# Altium footprint library WR-FPC_1.00mm.PcbLib: 115 footprints (part 5 of 8)
Each footprint in its own frame and in the unit in brackets; x right, y up, seen from the top. Pads: shape width x height; smd on the part's side, far side on the other; paste and mask are expansions set on the pad; w line width, h text height; cw(c..) or ccw(c..) is an arc to the next point about the centre after c.
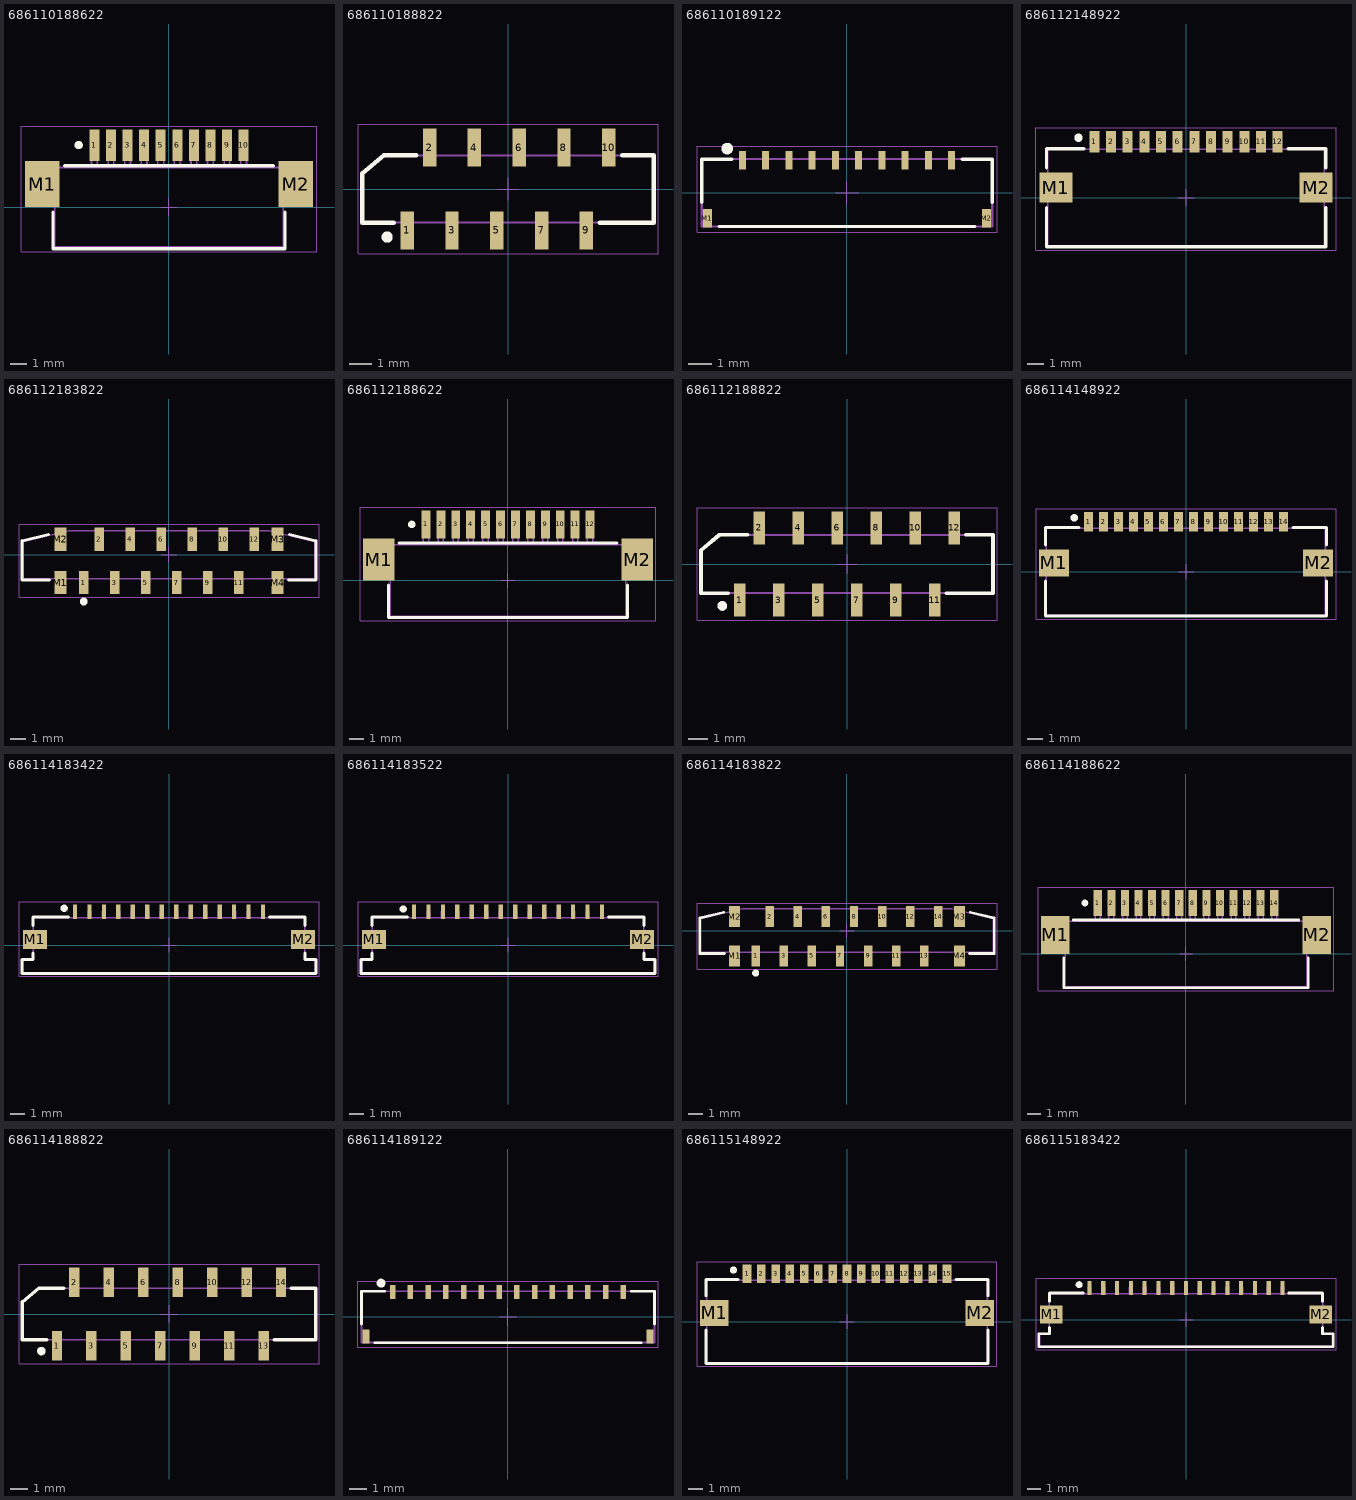
[diagram p4: the footprints below, top view; thin cyan lines are the x and y axes]

## 686110188622 [mm] "LIF Connectors, Horizontal, Top Contact, pitch 1mm, 10p"
height 3.1
pads (12):
  rect 0.6x1.9 smd: 1(-4.5,3.75) 2(-3.5,3.75) 3(-2.5,3.75) 4(-1.5,3.75) 5(-0.5,3.75) 6(0.5,3.75) 7(1.5,3.75) 8(2.5,3.75) 9(3.5,3.75) 10(4.5,3.75)
  rect 2.1x2.8 smd: M1(-7.65,1.4) M2(7.65,1.4)
Top Overlay:
  circle w0.25: c-5.45,3.75 r0.125
  lines w0.2: -7,-0.3 -7,-2.5 7,-2.5 7,-0.3 ; -6.3,2.5 6.3,2.5
Top Designator:
  text ".Designator" at -7.498,-0.5 h1.5
Top Component Outline:
  lines w0.1: -4.675,2.4 -4.675,4.4 -4.325,4.4 -4.325,2.4 ; -3.675,2.4 -3.675,4.4 -3.325,4.4 -3.325,2.4 ; -2.675,2.4 -2.675,4.4 -2.325,4.4 -2.325,2.4 ; -1.675,2.4 -1.675,4.4 -1.325,4.4 -1.325,2.4 ; -0.675,2.4 -0.675,4.4 -0.325,4.4 -0.325,2.4 ; 0.325,2.4 0.325,4.4 0.675,4.4 0.675,2.4 ; 1.325,2.4 1.325,4.4 1.675,4.4 1.675,2.4 ; 2.325,2.4 2.325,4.4 2.675,4.4 2.675,2.4 ; 3.325,2.4 3.325,4.4 3.675,4.4 3.675,2.4 ; 4.325,2.4 4.325,4.4 4.675,4.4 4.675,2.4 ; -8.15,0.4 -8.15,2.4 8.15,2.4 8.15,0.4 6.9,0.4 6.9,-2.4 -6.9,-2.4 -6.9,0.4 -8.15,0.4
Top 3D Body:
  lines w0.1: -4.675,2.4 -4.675,4.4 -4.325,4.4 -4.325,2.4 ; -3.675,2.4 -3.675,4.4 -3.325,4.4 -3.325,2.4 ; -2.675,2.4 -2.675,4.4 -2.325,4.4 -2.325,2.4 ; -1.675,2.4 -1.675,4.4 -1.325,4.4 -1.325,2.4 ; -0.675,2.4 -0.675,4.4 -0.325,4.4 -0.325,2.4 ; 0.325,2.4 0.325,4.4 0.675,4.4 0.675,2.4 ; 1.325,2.4 1.325,4.4 1.675,4.4 1.675,2.4 ; 2.325,2.4 2.325,4.4 2.675,4.4 2.675,2.4 ; 3.325,2.4 3.325,4.4 3.675,4.4 3.675,2.4 ; 4.325,2.4 4.325,4.4 4.675,4.4 4.675,2.4 ; -8.15,0.4 -6.9,0.4 -6.9,-2.4 6.9,-2.4 6.9,0.4 8.15,0.4 8.15,2.4 -8.15,2.4 -8.15,0.4
Top Courtyard:
  lines w0.05: -0.5,0 0.5,0 ; 0,-0.5 0,0.5 ; -8.9,-2.7 -8.9,4.9 8.9,4.9 8.9,-2.7 -8.9,-2.7
3D body "686110188622.stp": height 3.1, standoff -0.01, extent -8.15,-2.4 8.15,4.4

## 686110188822 [mm] "LIF Connectors, Vertical Type A,  pitch 1mm, 10p"
height 5.1
pads (10):
  rect 0.6x1.7 smd: 1(-4.5,-1.85) 2(-3.5,1.85) 3(-2.5,-1.85) 4(-1.5,1.85) 5(-0.5,-1.85) 6(0.5,1.85) 7(1.5,-1.85) 8(2.5,1.85) 9(3.5,-1.85) 10(4.5,1.85)
Top Overlay:
  circle w0.25: c-5.4,-2.15 r0.125
  lines w0.2: -5.1,-1.5 -6.5,-1.5 -6.5,0.7 -5.547,1.5 -4.1,1.5 ; 4.1,-1.5 6.5,-1.5 6.5,1.5 5.1,1.5
Top Designator:
  text ".Designator" at -7.498,-0.5 h1.5
Top Component Outline:
  lines w0.1: -4.675,-1.5 -4.675,-2.2 -4.325,-2.2 -4.325,-1.5 ; -3.675,1.5 -3.675,2.2 -3.325,2.2 -3.325,1.5 ; -2.675,-1.5 -2.675,-2.2 -2.325,-2.2 -2.325,-1.5 ; -1.675,1.5 -1.675,2.2 -1.325,2.2 -1.325,1.5 ; -0.675,-1.5 -0.675,-2.2 -0.325,-2.2 -0.325,-1.5 ; 0.325,1.5 0.325,2.2 0.675,2.2 0.675,1.5 ; 1.325,-1.5 1.325,-2.2 1.675,-2.2 1.675,-1.5 ; 2.325,1.5 2.325,2.2 2.675,2.2 2.675,1.5 ; 3.325,-1.5 3.325,-2.2 3.675,-2.2 3.675,-1.5 ; 4.325,1.5 4.325,2.2 4.675,2.2 4.675,1.5 ; -6.5,-1.5 6.5,-1.5 6.5,1.5 -5.547,1.5 -6.5,0.7 -6.5,-1.5
Top 3D Body:
  lines w0.1: -4.675,-1.5 -4.675,-2.2 -4.325,-2.2 -4.325,-1.5 ; -3.675,1.5 -3.675,2.2 -3.325,2.2 -3.325,1.5 ; -2.675,-1.5 -2.675,-2.2 -2.325,-2.2 -2.325,-1.5 ; -1.675,1.5 -1.675,2.2 -1.325,2.2 -1.325,1.5 ; -0.675,-1.5 -0.675,-2.2 -0.325,-2.2 -0.325,-1.5 ; 0.325,1.5 0.325,2.2 0.675,2.2 0.675,1.5 ; 1.325,-1.5 1.325,-2.2 1.675,-2.2 1.675,-1.5 ; 2.325,1.5 2.325,2.2 2.675,2.2 2.675,1.5 ; 3.325,-1.5 3.325,-2.2 3.675,-2.2 3.675,-1.5 ; 4.325,1.5 4.325,2.2 4.675,2.2 4.675,1.5 ; -6.5,-1.5 -6.5,0.7 -5.547,1.5 6.5,1.5 6.5,-1.5 -6.5,-1.5
Top Courtyard:
  lines w0.05: -0.5,0 0.5,0 ; 0,-0.5 0,0.5 ; -6.7,-2.9 6.7,-2.9 6.7,2.9 -6.7,2.9 -6.7,-2.9
3D body "686110188822.stp": height 5.21, standoff 0.01, extent -6.5,-2.2 6.5,2.2

## 686110189122 [mm] "SMT ZIF Horizontal Back Locking 1mm, 10p"
height 0.96
pads (12):
  rect 0.3x0.8 smd: 1(-4.5,1.4) 2(-3.5,1.4) 3(-2.5,1.4) 4(-1.5,1.4) 5(-0.5,1.4) 6(0.5,1.4) 7(1.5,1.4) 8(2.5,1.4) 9(3.5,1.4) 10(4.5,1.4)
  rect 0.4x0.8 smd: M1(-6,-1.1) M2(6,-1.1)
Top Overlay:
  circle w0.25: c-5.15,1.9 r0.125
  lines w0.15: -6.25,-0.4 -6.25,1.45 -4.95,1.45 ; -5.5,-1.45 5.5,-1.45 ; 4.95,1.45 6.25,1.45 6.25,-0.4
Top Designator:
  text ".Designator" at -7.498,-0.5 h1.5
Top Component Outline:
  lines w0.1: -6.25,-1.45 -6.25,1.45 6.25,1.45 6.25,-1.45 -6.25,-1.45
Top 3D Body:
  lines w0.1: -6.25,-1.45 6.25,-1.45 6.25,1.45 -6.25,1.45 -6.25,-1.45
Top Courtyard:
  lines w0.05: -0.5,0 0.5,0 ; 0,-0.5 0,0.5 ; -6.45,-1.7 6.45,-1.7 6.45,2 -6.45,2 -6.45,-1.7
3D body "686110189122.stp": height 1.79, standoff 0.01, extent -6.25,-1.45 6.25,1.65

## 686112148922 [mm] "ZIF Connectors, Horizontal, Bottom Contact Hinge Type, pitch 1mm, 12p"
height 2.3
pads (14):
  rect 0.6x1.3 smd: 1(-5.5,3.35) 2(-4.5,3.35) 3(-3.5,3.35) 4(-2.5,3.35) 5(-1.5,3.35) 6(-0.5,3.35) 7(0.5,3.35) 8(1.5,3.35) 9(2.5,3.35) 10(3.5,3.35) 11(4.5,3.35) 12(5.5,3.35)
  rect 2x1.8 smd: M1(-7.8,0.6) M2(7.8,0.6)
Top Overlay:
  circle w0.25: c-6.45,3.6 r0.125
  lines w0.2: -8.375,-0.6 -8.375,-2.95 8.375,-2.95 8.375,-0.6 ; -8.375,1.8 -8.375,2.95 -6.125,2.95 ; 6.125,2.95 8.375,2.95 8.375,1.8
Top Designator:
  text ".Designator" at -7.498,-0.5 h1.5
Top Component Outline:
  lines w0.1: -5.6,2.9 -5.6,3.6 -5.4,3.6 -5.4,2.9 ; -4.6,2.9 -4.6,3.6 -4.4,3.6 -4.4,2.9 ; -3.6,2.9 -3.6,3.6 -3.4,3.6 -3.4,2.9 ; -2.6,2.9 -2.6,3.6 -2.4,3.6 -2.4,2.9 ; -1.6,2.9 -1.6,3.6 -1.4,3.6 -1.4,2.9 ; -0.6,2.9 -0.6,3.6 -0.4,3.6 -0.4,2.9 ; 0.4,2.9 0.4,3.6 0.6,3.6 0.6,2.9 ; 1.4,2.9 1.4,3.6 1.6,3.6 1.6,2.9 ; 2.4,2.9 2.4,3.6 2.6,3.6 2.6,2.9 ; 3.4,2.9 3.4,3.6 3.6,3.6 3.6,2.9 ; 4.4,2.9 4.4,3.6 4.6,3.6 4.6,2.9 ; 5.4,2.9 5.4,3.6 5.6,3.6 5.6,2.9 ; -8.3,-2.9 -8.3,2.9 8.3,2.9 8.3,-2.9 -8.3,-2.9
Top 3D Body:
  lines w0.1: -5.6,2.9 -5.6,3.6 -5.4,3.6 -5.4,2.9 ; -4.6,2.9 -4.6,3.6 -4.4,3.6 -4.4,2.9 ; -3.6,2.9 -3.6,3.6 -3.4,3.6 -3.4,2.9 ; -2.6,2.9 -2.6,3.6 -2.4,3.6 -2.4,2.9 ; -1.6,2.9 -1.6,3.6 -1.4,3.6 -1.4,2.9 ; -0.6,2.9 -0.6,3.6 -0.4,3.6 -0.4,2.9 ; 0.4,2.9 0.4,3.6 0.6,3.6 0.6,2.9 ; 1.4,2.9 1.4,3.6 1.6,3.6 1.6,2.9 ; 2.4,2.9 2.4,3.6 2.6,3.6 2.6,2.9 ; 3.4,2.9 3.4,3.6 3.6,3.6 3.6,2.9 ; 4.4,2.9 4.4,3.6 4.6,3.6 4.6,2.9 ; 5.4,2.9 5.4,3.6 5.6,3.6 5.6,2.9 ; -8.3,-2.9 8.3,-2.9 8.3,2.9 -8.3,2.9 -8.3,-2.9
Top Courtyard:
  lines w0.05: -0.5,0 0.5,0 ; 0,-0.5 0,0.5 ; -9,-3.15 -9,4.2 9,4.2 9,-3.15 -9,-3.15
3D body "686112148922.stp": height 2.27, standoff 0.02, extent -8.3,-2.9 8.3,3.6

## 686112183822 [mm] "ZIF Connectors, Vertical, Type A, pitch 1mm, 12p"
height 4
pads (16):
  rect 0.6x1.5 smd: 1(-5.5,-1.8) 2(-4.5,1) 3(-3.5,-1.8) 4(-2.5,1) 5(-1.5,-1.8) 6(-0.5,1) 7(0.5,-1.8) 8(1.5,1) 9(2.5,-1.8) 10(3.5,1) 11(4.5,-1.8) 12(5.5,1)
  rect 0.8x1.5 smd: M1(-7,-1.8) M2(-7,1) M3(7,1) M4(7,-1.8)
Top Overlay:
  circle w0.25: c-5.5,-3.025 r0.125
  lines w0.2: -7.765,1.308 -9.475,0.897 -9.475,-1.625 -7.725,-1.625 ; 7.725,-1.625 9.475,-1.625 9.475,0.897 7.765,1.308
Top Designator:
  text ".Designator" at -7.498,-0.5 h1.5
Top Component Outline:
  lines w0.1: -7.2,-1.55 -7.2,-2.05 -6.8,-2.05 -6.8,-1.55 ; -6.45,1.55 6.45,1.55 9.4,0.84 9.4,-1.55 -9.4,-1.55 -9.4,0.84 -6.45,1.549 ; -5.6,-1.55 -5.6,-2.05 -5.4,-2.05 -5.4,-1.55 ; -3.6,-1.55 -3.6,-2.05 -3.4,-2.05 -3.4,-1.55 ; -1.6,-1.55 -1.6,-2.05 -1.4,-2.05 -1.4,-1.55 ; 0.4,-1.55 0.4,-2.05 0.6,-2.05 0.6,-1.55 ; 2.4,-1.55 2.4,-2.05 2.6,-2.05 2.6,-1.55 ; 4.4,-1.55 4.4,-2.05 4.6,-2.05 4.6,-1.55 ; 6.8,-1.55 6.8,-2.05 7.2,-2.05 7.2,-1.55
Top 3D Body:
  lines w0.1: -7.2,-1.55 -7.2,-2.05 -6.8,-2.05 -6.8,-1.55 ; -6.45,1.55 6.45,1.55 9.4,0.84 9.4,-1.55 -9.4,-1.55 -9.4,0.84 -6.45,1.549 ; -5.6,-1.55 -5.6,-2.05 -5.4,-2.05 -5.4,-1.55 ; -3.6,-1.55 -3.6,-2.05 -3.4,-2.05 -3.4,-1.55 ; -1.6,-1.55 -1.6,-2.05 -1.4,-2.05 -1.4,-1.55 ; 0.4,-1.55 0.4,-2.05 0.6,-2.05 0.6,-1.55 ; 2.4,-1.55 2.4,-2.05 2.6,-2.05 2.6,-1.55 ; 4.4,-1.55 4.4,-2.05 4.6,-2.05 4.6,-1.55 ; 6.8,-1.55 6.8,-2.05 7.2,-2.05 7.2,-1.55
Top Courtyard:
  lines w0.05: -0.5,0 0.5,0 ; 0,-0.5 0,0.5 ; -9.675,-2.75 9.675,-2.75 9.675,1.95 -9.675,1.95 -9.675,-2.75
3D body "686112183822.stp": height 4, standoff -0.02, extent -9.4,-2.05 9.4,1.55

## 686112188622 [mm] "LIF Connectors, Horizontal, Top Contact, pitch 1mm, 12p"
height 3.1
pads (14):
  rect 0.6x1.9 smd: 1(-5.5,3.75) 2(-4.5,3.75) 3(-3.5,3.75) 4(-2.5,3.75) 5(-1.5,3.75) 6(-0.5,3.75) 7(0.5,3.75) 8(1.5,3.75) 9(2.5,3.75) 10(3.5,3.75) 11(4.5,3.75) 12(5.5,3.75)
  rect 2.1x2.8 smd: M1(-8.65,1.4) M2(8.65,1.4)
Top Overlay:
  circle w0.25: c-6.45,3.75 r0.125
  lines w0.2: -8,-0.3 -8,-2.5 8,-2.5 8,-0.3 ; -7.3,2.5 7.3,2.5
Top Designator:
  text ".Designator" at -7.498,-0.5 h1.5
Top Component Outline:
  lines w0.1: -5.675,2.4 -5.675,4.4 -5.325,4.4 -5.325,2.4 ; -4.675,2.4 -4.675,4.4 -4.325,4.4 -4.325,2.4 ; -3.675,2.4 -3.675,4.4 -3.325,4.4 -3.325,2.4 ; -2.675,2.4 -2.675,4.4 -2.325,4.4 -2.325,2.4 ; -1.675,2.4 -1.675,4.4 -1.325,4.4 -1.325,2.4 ; -0.675,2.4 -0.675,4.4 -0.325,4.4 -0.325,2.4 ; 0.325,2.4 0.325,4.4 0.675,4.4 0.675,2.4 ; 1.325,2.4 1.325,4.4 1.675,4.4 1.675,2.4 ; 2.325,2.4 2.325,4.4 2.675,4.4 2.675,2.4 ; 3.325,2.4 3.325,4.4 3.675,4.4 3.675,2.4 ; 4.325,2.4 4.325,4.4 4.675,4.4 4.675,2.4 ; 5.325,2.4 5.325,4.4 5.675,4.4 5.675,2.4 ; -9.15,0.4 -9.15,2.4 9.15,2.4 9.15,0.4 7.9,0.4 7.9,-2.4 -7.9,-2.4 -7.9,0.4 -9.15,0.4
Top 3D Body:
  lines w0.1: -5.675,2.4 -5.675,4.4 -5.325,4.4 -5.325,2.4 ; -4.675,2.4 -4.675,4.4 -4.325,4.4 -4.325,2.4 ; -3.675,2.4 -3.675,4.4 -3.325,4.4 -3.325,2.4 ; -2.675,2.4 -2.675,4.4 -2.325,4.4 -2.325,2.4 ; -1.675,2.4 -1.675,4.4 -1.325,4.4 -1.325,2.4 ; -0.675,2.4 -0.675,4.4 -0.325,4.4 -0.325,2.4 ; 0.325,2.4 0.325,4.4 0.675,4.4 0.675,2.4 ; 1.325,2.4 1.325,4.4 1.675,4.4 1.675,2.4 ; 2.325,2.4 2.325,4.4 2.675,4.4 2.675,2.4 ; 3.325,2.4 3.325,4.4 3.675,4.4 3.675,2.4 ; 4.325,2.4 4.325,4.4 4.675,4.4 4.675,2.4 ; 5.325,2.4 5.325,4.4 5.675,4.4 5.675,2.4 ; -9.15,0.4 -7.9,0.4 -7.9,-2.4 7.9,-2.4 7.9,0.4 9.15,0.4 9.15,2.4 -9.15,2.4 -9.15,0.4
Top Courtyard:
  lines w0.05: -0.5,0 0.5,0 ; 0,-0.5 0,0.5 ; -9.9,-2.7 -9.9,4.9 9.9,4.9 9.9,-2.7 -9.9,-2.7
3D body "686112188622.stp": height 3.1, standoff -0.01, extent -9.15,-2.4 9.15,4.4

## 686112188822 [mm] "LIF Connectors, Vertical Type A,  pitch 1mm, 12p"
height 5.1
pads (12):
  rect 0.6x1.7 smd: 1(-5.5,-1.85) 2(-4.5,1.85) 3(-3.5,-1.85) 4(-2.5,1.85) 5(-1.5,-1.85) 6(-0.5,1.85) 7(0.5,-1.85) 8(1.5,1.85) 9(2.5,-1.85) 10(3.5,1.85) 11(4.5,-1.85) 12(5.5,1.85)
Top Overlay:
  circle w0.25: c-6.4,-2.15 r0.125
  lines w0.2: -6.1,-1.5 -7.5,-1.5 -7.5,0.7 -6.547,1.5 -5.1,1.5 ; 5.1,-1.5 7.5,-1.5 7.5,1.5 6.1,1.5
Top Designator:
  text ".Designator" at -7.498,-0.5 h1.5
Top Component Outline:
  lines w0.1: -5.675,-1.5 -5.675,-2.2 -5.325,-2.2 -5.325,-1.5 ; -4.675,1.5 -4.675,2.2 -4.325,2.2 -4.325,1.5 ; -3.675,-1.5 -3.675,-2.2 -3.325,-2.2 -3.325,-1.5 ; -2.675,1.5 -2.675,2.2 -2.325,2.2 -2.325,1.5 ; -1.675,-1.5 -1.675,-2.2 -1.325,-2.2 -1.325,-1.5 ; -0.675,1.5 -0.675,2.2 -0.325,2.2 -0.325,1.5 ; 0.325,-1.5 0.325,-2.2 0.675,-2.2 0.675,-1.5 ; 1.325,1.5 1.325,2.2 1.675,2.2 1.675,1.5 ; 2.325,-1.5 2.325,-2.2 2.675,-2.2 2.675,-1.5 ; 3.325,1.5 3.325,2.2 3.675,2.2 3.675,1.5 ; 4.325,-1.5 4.325,-2.2 4.675,-2.2 4.675,-1.5 ; 5.325,1.5 5.325,2.2 5.675,2.2 5.675,1.5 ; -7.5,-1.5 -7.5,0.7 -6.547,1.5 7.5,1.5 7.5,-1.5 -7.5,-1.5
Top 3D Body:
  lines w0.1: -5.675,-1.5 -5.675,-2.2 -5.325,-2.2 -5.325,-1.5 ; -4.675,1.5 -4.675,2.2 -4.325,2.2 -4.325,1.5 ; -3.675,-1.5 -3.675,-2.2 -3.325,-2.2 -3.325,-1.5 ; -2.675,1.5 -2.675,2.2 -2.325,2.2 -2.325,1.5 ; -1.675,-1.5 -1.675,-2.2 -1.325,-2.2 -1.325,-1.5 ; -0.675,1.5 -0.675,2.2 -0.325,2.2 -0.325,1.5 ; 0.325,-1.5 0.325,-2.2 0.675,-2.2 0.675,-1.5 ; 1.325,1.5 1.325,2.2 1.675,2.2 1.675,1.5 ; 2.325,-1.5 2.325,-2.2 2.675,-2.2 2.675,-1.5 ; 3.325,1.5 3.325,2.2 3.675,2.2 3.675,1.5 ; 4.325,-1.5 4.325,-2.2 4.675,-2.2 4.675,-1.5 ; 5.325,1.5 5.325,2.2 5.675,2.2 5.675,1.5 ; -7.5,-1.5 7.5,-1.5 7.5,1.5 -6.547,1.5 -7.5,0.7 -7.5,-1.5
Top Courtyard:
  lines w0.05: -0.5,0 0.5,0 ; 0,-0.5 0,0.5 ; -7.7,-2.9 -7.7,2.9 7.7,2.9 7.7,-2.9 -7.7,-2.9
3D body "686112188822.stp": height 5.21, standoff 0.01, extent -7.5,-2.2 7.5,2.2

## 686114148922 [mm] "ZIF Connectors, Horizontal, Bottom Contact Hinge Type, pitch 1mm, 14p"
height 2.3
pads (16):
  rect 0.6x1.3 smd: 1(-6.5,3.35) 2(-5.5,3.35) 3(-4.5,3.35) 4(-3.5,3.35) 5(-2.5,3.35) 6(-1.5,3.35) 7(-0.5,3.35) 8(0.5,3.35) 9(1.5,3.35) 10(2.5,3.35) 11(3.5,3.35) 12(4.5,3.35) 13(5.5,3.35) 14(6.5,3.35)
  rect 2x1.8 smd: M1(-8.8,0.6) M2(8.8,0.6)
Top Overlay:
  circle w0.25: c-7.45,3.6 r0.125
  lines w0.2: -9.375,-0.6 -9.375,-2.95 9.375,-2.95 9.375,-0.6 ; -9.375,1.8 -9.375,2.95 -7.125,2.95 ; 7.125,2.95 9.375,2.95 9.375,1.8
Top Designator:
  text ".Designator" at -7.498,-0.5 h1.5
Top Component Outline:
  lines w0.1: -6.6,2.9 -6.6,3.6 -6.4,3.6 -6.4,2.9 ; -5.6,2.9 -5.6,3.6 -5.4,3.6 -5.4,2.9 ; -4.6,2.9 -4.6,3.6 -4.4,3.6 -4.4,2.9 ; -3.6,2.9 -3.6,3.6 -3.4,3.6 -3.4,2.9 ; -2.6,2.9 -2.6,3.6 -2.4,3.6 -2.4,2.9 ; -1.6,2.9 -1.6,3.6 -1.4,3.6 -1.4,2.9 ; -0.6,2.9 -0.6,3.6 -0.4,3.6 -0.4,2.9 ; 0.4,2.9 0.4,3.6 0.6,3.6 0.6,2.9 ; 1.4,2.9 1.4,3.6 1.6,3.6 1.6,2.9 ; 2.4,2.9 2.4,3.6 2.6,3.6 2.6,2.9 ; 3.4,2.9 3.4,3.6 3.6,3.6 3.6,2.9 ; 4.4,2.9 4.4,3.6 4.6,3.6 4.6,2.9 ; 5.4,2.9 5.4,3.6 5.6,3.6 5.6,2.9 ; 6.4,2.9 6.4,3.6 6.6,3.6 6.6,2.9 ; -9.3,-2.9 9.3,-2.9 9.3,2.9 -9.3,2.9 -9.3,-2.9
Top 3D Body:
  lines w0.1: -6.6,2.9 -6.6,3.6 -6.4,3.6 -6.4,2.9 ; -5.6,2.9 -5.6,3.6 -5.4,3.6 -5.4,2.9 ; -4.6,2.9 -4.6,3.6 -4.4,3.6 -4.4,2.9 ; -3.6,2.9 -3.6,3.6 -3.4,3.6 -3.4,2.9 ; -2.6,2.9 -2.6,3.6 -2.4,3.6 -2.4,2.9 ; -1.6,2.9 -1.6,3.6 -1.4,3.6 -1.4,2.9 ; -0.6,2.9 -0.6,3.6 -0.4,3.6 -0.4,2.9 ; 0.4,2.9 0.4,3.6 0.6,3.6 0.6,2.9 ; 1.4,2.9 1.4,3.6 1.6,3.6 1.6,2.9 ; 2.4,2.9 2.4,3.6 2.6,3.6 2.6,2.9 ; 3.4,2.9 3.4,3.6 3.6,3.6 3.6,2.9 ; 4.4,2.9 4.4,3.6 4.6,3.6 4.6,2.9 ; 5.4,2.9 5.4,3.6 5.6,3.6 5.6,2.9 ; 6.4,2.9 6.4,3.6 6.6,3.6 6.6,2.9 ; -9.3,-2.9 -9.3,2.9 9.3,2.9 9.3,-2.9 -9.3,-2.9
Top Courtyard:
  lines w0.05: -0.5,0 0.5,0 ; 0,-0.5 0,0.5 ; -10,-3.15 10,-3.15 10,4.2 -10,4.2 -10,-3.15
3D body "686114148922.stp": height 2.27, standoff 0.02, extent -9.3,-2.9 9.3,3.6

## 686114183422 [mm] "ZIF Connectors, Horizontal, Top Contact Low Profile, pitch 1mm, 14p"
height 1.3
pads (16):
  rect 0.3x1 smd: 1(-6.5,2.3) 2(-5.5,2.3) 3(-4.5,2.3) 4(-3.5,2.3) 5(-2.5,2.3) 6(-1.5,2.3) 7(-0.5,2.3) 8(0.5,2.3) 9(1.5,2.3) 10(2.5,2.3) 11(3.5,2.3) 12(4.5,2.3) 13(5.5,2.3) 14(6.5,2.3)
  rect 1.65x1.3 smd: M1(-9.275,0.4) M2(9.275,0.4)
Top Overlay:
  circle w0.25: c-7.25,2.55 r0.125
  lines w0.2: -9.4,-0.55 -9.4,-1 -10.175,-1 -10.175,-1.95 10.175,-1.95 10.175,-1 9.4,-1 9.4,-0.55 ; -9.4,1.35 -9.4,1.95 -6.95,1.95 ; 6.95,1.95 9.4,1.95 9.4,1.35
Top Designator:
  text ".Designator" at -7.498,-0.5 h1.5
Top Component Outline:
  lines w0.1: -6.6,1.9 -6.6,2.35 -6.4,2.35 -6.4,1.9 ; -5.6,1.9 -5.6,2.35 -5.4,2.35 -5.4,1.9 ; -4.6,1.9 -4.6,2.35 -4.4,2.35 -4.4,1.9 ; -3.6,1.9 -3.6,2.35 -3.4,2.35 -3.4,1.9 ; -2.6,1.9 -2.6,2.35 -2.4,2.35 -2.4,1.9 ; -1.6,1.9 -1.6,2.35 -1.4,2.35 -1.4,1.9 ; -0.6,1.9 -0.6,2.35 -0.4,2.35 -0.4,1.9 ; 0.4,1.9 0.4,2.35 0.6,2.35 0.6,1.9 ; 1.4,1.9 1.4,2.35 1.6,2.35 1.6,1.9 ; 2.4,1.9 2.4,2.35 2.6,2.35 2.6,1.9 ; 3.4,1.9 3.4,2.35 3.6,2.35 3.6,1.9 ; 4.4,1.9 4.4,2.35 4.6,2.35 4.6,1.9 ; 5.4,1.9 5.4,2.35 5.6,2.35 5.6,1.9 ; 6.4,1.9 6.4,2.35 6.6,2.35 6.6,1.9 ; -10.1,-1 -10.1,-1.9 10.1,-1.9 10.1,-1 9.4,-1 9.4,1.9 -9.4,1.9 -9.4,-1 -10.1,-1 ; -10.1,-1 -10.1,-1
Top 3D Body:
  lines w0.1: -6.6,1.9 -6.6,2.35 -6.4,2.35 -6.4,1.9 ; -5.6,1.9 -5.6,2.35 -5.4,2.35 -5.4,1.9 ; -4.6,1.9 -4.6,2.35 -4.4,2.35 -4.4,1.9 ; -3.6,1.9 -3.6,2.35 -3.4,2.35 -3.4,1.9 ; -2.6,1.9 -2.6,2.35 -2.4,2.35 -2.4,1.9 ; -1.6,1.9 -1.6,2.35 -1.4,2.35 -1.4,1.9 ; -0.6,1.9 -0.6,2.35 -0.4,2.35 -0.4,1.9 ; 0.4,1.9 0.4,2.35 0.6,2.35 0.6,1.9 ; 1.4,1.9 1.4,2.35 1.6,2.35 1.6,1.9 ; 2.4,1.9 2.4,2.35 2.6,2.35 2.6,1.9 ; 3.4,1.9 3.4,2.35 3.6,2.35 3.6,1.9 ; 4.4,1.9 4.4,2.35 4.6,2.35 4.6,1.9 ; 5.4,1.9 5.4,2.35 5.6,2.35 5.6,1.9 ; 6.4,1.9 6.4,2.35 6.6,2.35 6.6,1.9 ; -10.1,-1 -9.4,-1 -9.4,1.9 9.4,1.9 9.4,-1 10.1,-1 10.1,-1.9 -10.1,-1.9 -10.1,-1 ; -10.1,-1 -10.1,-1
Top Courtyard:
  lines w0.05: -0.5,0 0.5,0 ; 0,-0.5 0,0.5 ; -10.375,-2.15 -10.375,3 10.375,3 10.375,-2.15 -10.375,-2.15
3D body "686114183422.stp": height 1.28, standoff -0.01, extent -10.1,-1.9 10.1,2.35

## 686114183522 [mm] "ZIF Connectors, Horizontal, Bottom Contact Low Profile, pitch 1mm, 14p"
height 1.3
pads (16):
  rect 0.3x1 smd: 1(-6.5,2.3) 2(-5.5,2.3) 3(-4.5,2.3) 4(-3.5,2.3) 5(-2.5,2.3) 6(-1.5,2.3) 7(-0.5,2.3) 8(0.5,2.3) 9(1.5,2.3) 10(2.5,2.3) 11(3.5,2.3) 12(4.5,2.3) 13(5.5,2.3) 14(6.5,2.3)
  rect 1.65x1.3 smd: M1(-9.275,0.4) M2(9.275,0.4)
Top Overlay:
  circle w0.25: c-7.25,2.5 r0.125
  lines w0.2: -9.4,-0.55 -9.4,-1 -10.175,-1 -10.175,-1.95 10.175,-1.95 10.175,-1 9.4,-1 9.4,-0.55 ; -9.4,1.35 -9.4,1.95 -6.95,1.95 ; 6.95,1.95 9.4,1.95 9.4,1.35
Top Designator:
  text ".Designator" at -7.498,-0.5 h1.5
Top Component Outline:
  lines w0.1: -6.6,1.9 -6.6,2.35 -6.4,2.35 -6.4,1.9 ; -5.6,1.9 -5.6,2.35 -5.4,2.35 -5.4,1.9 ; -4.6,1.9 -4.6,2.35 -4.4,2.35 -4.4,1.9 ; -3.6,1.9 -3.6,2.35 -3.4,2.35 -3.4,1.9 ; -2.6,1.9 -2.6,2.35 -2.4,2.35 -2.4,1.9 ; -1.6,1.9 -1.6,2.35 -1.4,2.35 -1.4,1.9 ; -0.6,1.9 -0.6,2.35 -0.4,2.35 -0.4,1.9 ; 0.4,1.9 0.4,2.35 0.6,2.35 0.6,1.9 ; 1.4,1.9 1.4,2.35 1.6,2.35 1.6,1.9 ; 2.4,1.9 2.4,2.35 2.6,2.35 2.6,1.9 ; 3.4,1.9 3.4,2.35 3.6,2.35 3.6,1.9 ; 4.4,1.9 4.4,2.35 4.6,2.35 4.6,1.9 ; 5.4,1.9 5.4,2.35 5.6,2.35 5.6,1.9 ; 6.4,1.9 6.4,2.35 6.6,2.35 6.6,1.9 ; -10.1,-1 -9.4,-1 -9.4,1.9 9.4,1.9 9.4,-1 10.1,-1 10.1,-1.9 -10.1,-1.9 -10.1,-1 ; -10.1,-1 -10.1,-1
Top 3D Body:
  lines w0.1: -6.6,1.9 -6.6,2.35 -6.4,2.35 -6.4,1.9 ; -5.6,1.9 -5.6,2.35 -5.4,2.35 -5.4,1.9 ; -4.6,1.9 -4.6,2.35 -4.4,2.35 -4.4,1.9 ; -3.6,1.9 -3.6,2.35 -3.4,2.35 -3.4,1.9 ; -2.6,1.9 -2.6,2.35 -2.4,2.35 -2.4,1.9 ; -1.6,1.9 -1.6,2.35 -1.4,2.35 -1.4,1.9 ; -0.6,1.9 -0.6,2.35 -0.4,2.35 -0.4,1.9 ; 0.4,1.9 0.4,2.35 0.6,2.35 0.6,1.9 ; 1.4,1.9 1.4,2.35 1.6,2.35 1.6,1.9 ; 2.4,1.9 2.4,2.35 2.6,2.35 2.6,1.9 ; 3.4,1.9 3.4,2.35 3.6,2.35 3.6,1.9 ; 4.4,1.9 4.4,2.35 4.6,2.35 4.6,1.9 ; 5.4,1.9 5.4,2.35 5.6,2.35 5.6,1.9 ; 6.4,1.9 6.4,2.35 6.6,2.35 6.6,1.9 ; -10.1,-1 -10.1,-1.9 10.1,-1.9 10.1,-1 9.4,-1 9.4,1.9 -9.4,1.9 -9.4,-1 -10.1,-1 ; -10.1,-1 -10.1,-1
Top Courtyard:
  lines w0.05: -0.5,0 0.5,0 ; 0,-0.5 0,0.5 ; -10.375,-2.15 10.375,-2.15 10.375,3 -10.375,3 -10.375,-2.15
3D body "686114183522.stp": height 1.24, standoff -0.01, extent -10.1,-1.9 10.1,2.35

## 686114183822 [mm] "ZIF Connectors, Vertical, Type A, pitch 1mm, 14p"
height 4
pads (18):
  rect 0.6x1.5 smd: 1(-6.5,-1.8) 2(-5.5,1) 3(-4.5,-1.8) 4(-3.5,1) 5(-2.5,-1.8) 6(-1.5,1) 7(-0.5,-1.8) 8(0.5,1) 9(1.5,-1.8) 10(2.5,1) 11(3.5,-1.8) 12(4.5,1) 13(5.5,-1.8) 14(6.5,1)
  rect 0.8x1.5 smd: M1(-8,-1.8) M2(-8,1) M3(8,1) M4(8,-1.8)
Top Overlay:
  circle w0.25: c-6.5,-3.025 r0.125
  lines w0.2: -8.765,1.308 -10.475,0.897 -10.475,-1.625 -8.725,-1.625 ; 8.725,-1.625 10.475,-1.625 10.475,0.897 8.765,1.308
Top Designator:
  text ".Designator" at -7.498,-0.5 h1.5
Top Component Outline:
  lines w0.1: -8.2,-1.55 -8.2,-2.05 -7.8,-2.05 -7.8,-1.55 ; -6.6,-1.55 -6.6,-2.05 -6.4,-2.05 -6.4,-1.55 ; -4.6,-1.55 -4.6,-2.05 -4.4,-2.05 -4.4,-1.55 ; -2.6,-1.55 -2.6,-2.05 -2.4,-2.05 -2.4,-1.55 ; -0.6,-1.55 -0.6,-2.05 -0.4,-2.05 -0.4,-1.55 ; 1.4,-1.55 1.4,-2.05 1.6,-2.05 1.6,-1.55 ; 3.4,-1.55 3.4,-2.05 3.6,-2.05 3.6,-1.55 ; 5.4,-1.55 5.4,-2.05 5.6,-2.05 5.6,-1.55 ; 7.8,-1.55 7.8,-2.05 8.2,-2.05 8.2,-1.55 ; -10.4,-1.55 -10.4,0.84 -7.45,1.549 7.45,1.55 10.4,0.84 10.4,-1.55 -10.4,-1.55
Top 3D Body:
  lines w0.1: -8.2,-1.55 -8.2,-2.05 -7.8,-2.05 -7.8,-1.55 ; -6.6,-1.55 -6.6,-2.05 -6.4,-2.05 -6.4,-1.55 ; -4.6,-1.55 -4.6,-2.05 -4.4,-2.05 -4.4,-1.55 ; -2.6,-1.55 -2.6,-2.05 -2.4,-2.05 -2.4,-1.55 ; -0.6,-1.55 -0.6,-2.05 -0.4,-2.05 -0.4,-1.55 ; 1.4,-1.55 1.4,-2.05 1.6,-2.05 1.6,-1.55 ; 3.4,-1.55 3.4,-2.05 3.6,-2.05 3.6,-1.55 ; 5.4,-1.55 5.4,-2.05 5.6,-2.05 5.6,-1.55 ; 7.8,-1.55 7.8,-2.05 8.2,-2.05 8.2,-1.55 ; -10.4,-1.55 10.4,-1.55 10.4,0.84 7.45,1.549 -7.45,1.55 -10.4,0.84 -10.4,-1.55
Top Courtyard:
  lines w0.05: -0.5,0 0.5,0 ; 0,-0.5 0,0.5 ; -10.675,-2.75 -10.675,1.95 10.675,1.95 10.675,-2.75 -10.675,-2.75
3D body "686114183822.stp": height 4, standoff -0.02, extent -10.4,-2.05 10.4,1.55

## 686114188622 [mm] "LIF Connectors, Horizontal, Top Contact, pitch 1mm, 14p"
height 3.1
pads (16):
  rect 0.6x1.9 smd: 1(-6.5,3.75) 2(-5.5,3.75) 3(-4.5,3.75) 4(-3.5,3.75) 5(-2.5,3.75) 6(-1.5,3.75) 7(-0.5,3.75) 8(0.5,3.75) 9(1.5,3.75) 10(2.5,3.75) 11(3.5,3.75) 12(4.5,3.75) 13(5.5,3.75) 14(6.5,3.75)
  rect 2.1x2.8 smd: M1(-9.65,1.4) M2(9.65,1.4)
Top Overlay:
  circle w0.25: c-7.45,3.75 r0.125
  lines w0.2: -9,-0.3 -9,-2.5 9,-2.5 9,-0.3 ; -8.3,2.5 8.3,2.5
Top Designator:
  text ".Designator" at -7.498,-0.5 h1.5
Top Component Outline:
  lines w0.1: -6.675,2.4 -6.675,4.4 -6.325,4.4 -6.325,2.4 ; -5.675,2.4 -5.675,4.4 -5.325,4.4 -5.325,2.4 ; -4.675,2.4 -4.675,4.4 -4.325,4.4 -4.325,2.4 ; -3.675,2.4 -3.675,4.4 -3.325,4.4 -3.325,2.4 ; -2.675,2.4 -2.675,4.4 -2.325,4.4 -2.325,2.4 ; -1.675,2.4 -1.675,4.4 -1.325,4.4 -1.325,2.4 ; -0.675,2.4 -0.675,4.4 -0.325,4.4 -0.325,2.4 ; 0.325,2.4 0.325,4.4 0.675,4.4 0.675,2.4 ; 1.325,2.4 1.325,4.4 1.675,4.4 1.675,2.4 ; 2.325,2.4 2.325,4.4 2.675,4.4 2.675,2.4 ; 3.325,2.4 3.325,4.4 3.675,4.4 3.675,2.4 ; 4.325,2.4 4.325,4.4 4.675,4.4 4.675,2.4 ; 5.325,2.4 5.325,4.4 5.675,4.4 5.675,2.4 ; 6.325,2.4 6.325,4.4 6.675,4.4 6.675,2.4 ; -10.15,0.4 -8.9,0.4 -8.9,-2.4 8.9,-2.4 8.9,0.4 10.15,0.4 10.15,2.4 -10.15,2.4 -10.15,0.4
Top 3D Body:
  lines w0.1: -6.675,2.4 -6.675,4.4 -6.325,4.4 -6.325,2.4 ; -5.675,2.4 -5.675,4.4 -5.325,4.4 -5.325,2.4 ; -4.675,2.4 -4.675,4.4 -4.325,4.4 -4.325,2.4 ; -3.675,2.4 -3.675,4.4 -3.325,4.4 -3.325,2.4 ; -2.675,2.4 -2.675,4.4 -2.325,4.4 -2.325,2.4 ; -1.675,2.4 -1.675,4.4 -1.325,4.4 -1.325,2.4 ; -0.675,2.4 -0.675,4.4 -0.325,4.4 -0.325,2.4 ; 0.325,2.4 0.325,4.4 0.675,4.4 0.675,2.4 ; 1.325,2.4 1.325,4.4 1.675,4.4 1.675,2.4 ; 2.325,2.4 2.325,4.4 2.675,4.4 2.675,2.4 ; 3.325,2.4 3.325,4.4 3.675,4.4 3.675,2.4 ; 4.325,2.4 4.325,4.4 4.675,4.4 4.675,2.4 ; 5.325,2.4 5.325,4.4 5.675,4.4 5.675,2.4 ; 6.325,2.4 6.325,4.4 6.675,4.4 6.675,2.4 ; -10.15,0.4 -10.15,2.4 10.15,2.4 10.15,0.4 8.9,0.4 8.9,-2.4 -8.9,-2.4 -8.9,0.4 -10.15,0.4
Top Courtyard:
  lines w0.05: -0.5,0 0.5,0 ; 0,-0.5 0,0.5 ; -10.9,-2.7 10.9,-2.7 10.9,4.9 -10.9,4.9 -10.9,-2.7
3D body "686114188622.stp": height 3.1, standoff -0.01, extent -10.15,-2.4 10.15,4.4

## 686114188822 [mm] "LIF Connectors, Vertical Type A,  pitch 1mm, 14p"
height 5.1
pads (14):
  rect 0.6x1.7 smd: 1(-6.5,-1.85) 2(-5.5,1.85) 3(-4.5,-1.85) 4(-3.5,1.85) 5(-2.5,-1.85) 6(-1.5,1.85) 7(-0.5,-1.85) 8(0.5,1.85) 9(1.5,-1.85) 10(2.5,1.85) 11(3.5,-1.85) 12(4.5,1.85) 13(5.5,-1.85) 14(6.5,1.85)
Top Overlay:
  circle w0.25: c-7.4,-2.15 r0.125
  lines w0.2: -7.1,-1.5 -8.5,-1.5 -8.5,0.7 -7.547,1.5 -6.1,1.5 ; 6.1,-1.5 8.5,-1.5 8.5,1.5 7.1,1.5
Top Designator:
  text ".Designator" at -7.498,-0.5 h1.5
Top Component Outline:
  lines w0.1: -7.547,1.5 8.5,1.5 8.5,-1.5 -8.5,-1.5 -8.5,0.7 -7.547,1.5 ; -6.675,-1.5 -6.675,-2.2 -6.325,-2.2 -6.325,-1.5 ; -5.675,1.5 -5.675,2.2 -5.325,2.2 -5.325,1.5 ; -4.675,-1.5 -4.675,-2.2 -4.325,-2.2 -4.325,-1.5 ; -3.675,1.5 -3.675,2.2 -3.325,2.2 -3.325,1.5 ; -2.675,-1.5 -2.675,-2.2 -2.325,-2.2 -2.325,-1.5 ; -1.675,1.5 -1.675,2.2 -1.325,2.2 -1.325,1.5 ; -0.675,-1.5 -0.675,-2.2 -0.325,-2.2 -0.325,-1.5 ; 0.325,1.5 0.325,2.2 0.675,2.2 0.675,1.5 ; 1.325,-1.5 1.325,-2.2 1.675,-2.2 1.675,-1.5 ; 2.325,1.5 2.325,2.2 2.675,2.2 2.675,1.5 ; 3.325,-1.5 3.325,-2.2 3.675,-2.2 3.675,-1.5 ; 4.325,1.5 4.325,2.2 4.675,2.2 4.675,1.5 ; 5.325,-1.5 5.325,-2.2 5.675,-2.2 5.675,-1.5 ; 6.325,1.5 6.325,2.2 6.675,2.2 6.675,1.5
Top 3D Body:
  lines w0.1: -7.547,1.5 8.5,1.5 8.5,-1.5 -8.5,-1.5 -8.5,0.7 -7.547,1.5 ; -6.675,-1.5 -6.675,-2.2 -6.325,-2.2 -6.325,-1.5 ; -5.675,1.5 -5.675,2.2 -5.325,2.2 -5.325,1.5 ; -4.675,-1.5 -4.675,-2.2 -4.325,-2.2 -4.325,-1.5 ; -3.675,1.5 -3.675,2.2 -3.325,2.2 -3.325,1.5 ; -2.675,-1.5 -2.675,-2.2 -2.325,-2.2 -2.325,-1.5 ; -1.675,1.5 -1.675,2.2 -1.325,2.2 -1.325,1.5 ; -0.675,-1.5 -0.675,-2.2 -0.325,-2.2 -0.325,-1.5 ; 0.325,1.5 0.325,2.2 0.675,2.2 0.675,1.5 ; 1.325,-1.5 1.325,-2.2 1.675,-2.2 1.675,-1.5 ; 2.325,1.5 2.325,2.2 2.675,2.2 2.675,1.5 ; 3.325,-1.5 3.325,-2.2 3.675,-2.2 3.675,-1.5 ; 4.325,1.5 4.325,2.2 4.675,2.2 4.675,1.5 ; 5.325,-1.5 5.325,-2.2 5.675,-2.2 5.675,-1.5 ; 6.325,1.5 6.325,2.2 6.675,2.2 6.675,1.5
Top Courtyard:
  lines w0.05: -0.5,0 0.5,0 ; 0,-0.5 0,0.5 ; -8.7,-2.9 8.7,-2.9 8.7,2.9 -8.7,2.9 -8.7,-2.9
3D body "686114188822.stp": height 5.21, standoff 0.01, extent -8.5,-2.2 8.5,2.2

## 686114189122 [mm] "SMT ZIF Horizontal Back Locking 1mm, 14p"
height 0.96
pads (16):
  rect 0.3x0.8 smd: 1(-6.5,1.4) 2(-5.5,1.4) 3(-4.5,1.4) 4(-3.5,1.4) 5(-2.5,1.4) 6(-1.5,1.4) 7(-0.5,1.4) 8(0.5,1.4) 9(1.5,1.4) 10(2.5,1.4) 11(3.5,1.4) 12(4.5,1.4) 13(5.5,1.4) 14(6.5,1.4)
  rect 0.4x0.8 smd: M1(-8,-1.1) M2(8,-1.1)
Top Overlay:
  circle w0.25: c-7.15,1.9 r0.125
  lines w0.15: -8.25,-0.4 -8.25,1.45 -6.95,1.45 ; -7.5,-1.45 7.5,-1.45 ; 6.95,1.45 8.25,1.45 8.25,-0.4
Top Designator:
  text ".Designator" at -7.498,-0.5 h1.5
Top Component Outline:
  lines w0.1: -8.25,-1.45 8.25,-1.45 8.25,1.45 -8.25,1.45 -8.25,-1.45
Top 3D Body:
  lines w0.1: -8.25,-1.45 -8.25,1.45 8.25,1.45 8.25,-1.45 -8.25,-1.45
Top Courtyard:
  lines w0.05: -0.5,0 0.5,0 ; 0,-0.5 0,0.5 ; -8.45,-1.7 -8.45,2 8.45,2 8.45,-1.7 -8.45,-1.7
3D body "686114189122.stp": height 1.79, standoff 0.01, extent -8.25,-1.45 8.25,1.652

## 686115148922 [mm] "ZIF Connectors, Horizontal, Bottom Contact Hinge Type, pitch 1mm, 15p"
height 2.3
pads (17):
  rect 0.6x1.3 smd: 1(-7,3.35) 2(-6,3.35) 3(-5,3.35) 4(-4,3.35) 5(-3,3.35) 6(-2,3.35) 7(-1,3.35) 8(0,3.35) 9(1,3.35) 10(2,3.35) 11(3,3.35) 12(4,3.35) 13(5,3.35) 14(6,3.35) 15(7,3.35)
  rect 2x1.8 smd: M1(-9.3,0.6) M2(9.3,0.6)
Top Overlay:
  circle w0.25: c-7.95,3.6 r0.125
  lines w0.2: -9.875,-0.6 -9.875,-2.95 9.875,-2.95 9.875,-0.6 ; -9.875,1.8 -9.875,2.95 -7.625,2.95 ; 7.625,2.95 9.875,2.95 9.875,1.8
Top Designator:
  text ".Designator" at -7.498,-0.5 h1.5
Top Component Outline:
  lines w0.1: -7.1,2.9 -7.1,3.6 -6.9,3.6 -6.9,2.9 ; -6.1,2.9 -6.1,3.6 -5.9,3.6 -5.9,2.9 ; -5.1,2.9 -5.1,3.6 -4.9,3.6 -4.9,2.9 ; -4.1,2.9 -4.1,3.6 -3.9,3.6 -3.9,2.9 ; -3.1,2.9 -3.1,3.6 -2.9,3.6 -2.9,2.9 ; -2.1,2.9 -2.1,3.6 -1.9,3.6 -1.9,2.9 ; -1.1,2.9 -1.1,3.6 -0.9,3.6 -0.9,2.9 ; -0.1,2.9 -0.1,3.6 0.1,3.6 0.1,2.9 ; 0.9,2.9 0.9,3.6 1.1,3.6 1.1,2.9 ; 1.9,2.9 1.9,3.6 2.1,3.6 2.1,2.9 ; 2.9,2.9 2.9,3.6 3.1,3.6 3.1,2.9 ; 3.9,2.9 3.9,3.6 4.1,3.6 4.1,2.9 ; 4.9,2.9 4.9,3.6 5.1,3.6 5.1,2.9 ; 5.9,2.9 5.9,3.6 6.1,3.6 6.1,2.9 ; 6.9,2.9 6.9,3.6 7.1,3.6 7.1,2.9 ; -9.8,-2.9 9.8,-2.9 9.8,2.9 -9.8,2.9 -9.8,-2.9
Top 3D Body:
  lines w0.1: -7.1,2.9 -7.1,3.6 -6.9,3.6 -6.9,2.9 ; -6.1,2.9 -6.1,3.6 -5.9,3.6 -5.9,2.9 ; -5.1,2.9 -5.1,3.6 -4.9,3.6 -4.9,2.9 ; -4.1,2.9 -4.1,3.6 -3.9,3.6 -3.9,2.9 ; -3.1,2.9 -3.1,3.6 -2.9,3.6 -2.9,2.9 ; -2.1,2.9 -2.1,3.6 -1.9,3.6 -1.9,2.9 ; -1.1,2.9 -1.1,3.6 -0.9,3.6 -0.9,2.9 ; -0.1,2.9 -0.1,3.6 0.1,3.6 0.1,2.9 ; 0.9,2.9 0.9,3.6 1.1,3.6 1.1,2.9 ; 1.9,2.9 1.9,3.6 2.1,3.6 2.1,2.9 ; 2.9,2.9 2.9,3.6 3.1,3.6 3.1,2.9 ; 3.9,2.9 3.9,3.6 4.1,3.6 4.1,2.9 ; 4.9,2.9 4.9,3.6 5.1,3.6 5.1,2.9 ; 5.9,2.9 5.9,3.6 6.1,3.6 6.1,2.9 ; 6.9,2.9 6.9,3.6 7.1,3.6 7.1,2.9 ; -9.8,-2.9 -9.8,2.9 9.8,2.9 9.8,-2.9 -9.8,-2.9
Top Courtyard:
  lines w0.05: -0.5,0 0.5,0 ; 0,-0.5 0,0.5 ; -10.5,-3.15 10.5,-3.15 10.5,4.2 -10.5,4.2 -10.5,-3.15
3D body "686115148922.stp": height 2.27, standoff 0.02, extent -9.8,-2.9 9.8,3.6

## 686115183422 [mm] "ZIF Connectors, Horizontal, Top Contact Low Profile, pitch 1mm, 15p"
height 1.3
pads (17):
  rect 0.3x1 smd: 1(-7,2.3) 2(-6,2.3) 3(-5,2.3) 4(-4,2.3) 5(-3,2.3) 6(-2,2.3) 7(-1,2.3) 8(0,2.3) 9(1,2.3) 10(2,2.3) 11(3,2.3) 12(4,2.3) 13(5,2.3) 14(6,2.3) 15(7,2.3)
  rect 1.65x1.3 smd: M1(-9.775,0.4) M2(9.775,0.4)
Top Overlay:
  circle w0.25: c-7.75,2.55 r0.125
  lines w0.2: -9.9,-0.55 -9.9,-1 -10.675,-1 -10.675,-1.95 10.675,-1.95 10.675,-1 9.9,-1 9.9,-0.55 ; -9.9,1.35 -9.9,1.95 -7.45,1.95 ; 7.45,1.95 9.9,1.95 9.9,1.35
Top Designator:
  text ".Designator" at -7.498,-0.5 h1.5
Top Component Outline:
  lines w0.1: -7.1,1.9 -7.1,2.35 -6.9,2.35 -6.9,1.9 ; -6.1,1.9 -6.1,2.35 -5.9,2.35 -5.9,1.9 ; -5.1,1.9 -5.1,2.35 -4.9,2.35 -4.9,1.9 ; -4.1,1.9 -4.1,2.35 -3.9,2.35 -3.9,1.9 ; -3.1,1.9 -3.1,2.35 -2.9,2.35 -2.9,1.9 ; -2.1,1.9 -2.1,2.35 -1.9,2.35 -1.9,1.9 ; -1.1,1.9 -1.1,2.35 -0.9,2.35 -0.9,1.9 ; -0.1,1.9 -0.1,2.35 0.1,2.35 0.1,1.9 ; 0.9,1.9 0.9,2.35 1.1,2.35 1.1,1.9 ; 1.9,1.9 1.9,2.35 2.1,2.35 2.1,1.9 ; 2.9,1.9 2.9,2.35 3.1,2.35 3.1,1.9 ; 3.9,1.9 3.9,2.35 4.1,2.35 4.1,1.9 ; 4.9,1.9 4.9,2.35 5.1,2.35 5.1,1.9 ; 5.9,1.9 5.9,2.35 6.1,2.35 6.1,1.9 ; 6.9,1.9 6.9,2.35 7.1,2.35 7.1,1.9 ; -10.6,-1 -9.9,-1 -9.9,1.9 9.9,1.9 9.9,-1 10.6,-1 10.6,-1.9 -10.6,-1.9 -10.6,-1 ; -10.6,-1 -10.6,-1
Top 3D Body:
  lines w0.1: -7.1,1.9 -7.1,2.35 -6.9,2.35 -6.9,1.9 ; -6.1,1.9 -6.1,2.35 -5.9,2.35 -5.9,1.9 ; -5.1,1.9 -5.1,2.35 -4.9,2.35 -4.9,1.9 ; -4.1,1.9 -4.1,2.35 -3.9,2.35 -3.9,1.9 ; -3.1,1.9 -3.1,2.35 -2.9,2.35 -2.9,1.9 ; -2.1,1.9 -2.1,2.35 -1.9,2.35 -1.9,1.9 ; -1.1,1.9 -1.1,2.35 -0.9,2.35 -0.9,1.9 ; -0.1,1.9 -0.1,2.35 0.1,2.35 0.1,1.9 ; 0.9,1.9 0.9,2.35 1.1,2.35 1.1,1.9 ; 1.9,1.9 1.9,2.35 2.1,2.35 2.1,1.9 ; 2.9,1.9 2.9,2.35 3.1,2.35 3.1,1.9 ; 3.9,1.9 3.9,2.35 4.1,2.35 4.1,1.9 ; 4.9,1.9 4.9,2.35 5.1,2.35 5.1,1.9 ; 5.9,1.9 5.9,2.35 6.1,2.35 6.1,1.9 ; 6.9,1.9 6.9,2.35 7.1,2.35 7.1,1.9 ; -10.6,-1 -10.6,-1.9 10.6,-1.9 10.6,-1 9.9,-1 9.9,1.9 -9.9,1.9 -9.9,-1 -10.6,-1 ; -10.6,-1 -10.6,-1
Top Courtyard:
  lines w0.05: -0.5,0 0.5,0 ; 0,-0.5 0,0.5 ; -10.875,-2.15 10.875,-2.15 10.875,3 -10.875,3 -10.875,-2.15
3D body "686115183422.stp": height 1.28, standoff -0.01, extent -10.6,-1.9 10.6,2.35